# Altium schematic symbol library tmp.SchLib: 2 symbols
Pins are listed as number, name and electrical type; pins without a type are passive.

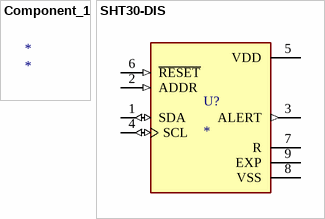
[diagram p0: symbols Component_1 to SHT30-DIS]

## Component_1
designator *

## SHT30-DIS
designator U?
SHT3x Series 5.5 V 卤3 %RH 0 to 100% Temperature and Humidity Sensor - DFN-8; MF: {'manufacturer': u'Sensirion AG'}; MP: SHT30-DIS; Package: None; Value: *; Availability: Unavailable; Price: None
footprint DFN250X250X100-9N
pins: 1 SDA (io), 2 ADDR (in), 3 ALERT (out), 4 SCL (io), 5 VDD (power), 6 ~{RESET} (in), 7 R, 8 VSS, 9 EXP